# EAGLE library part DM3D_MICRO_SD (library xnemo)
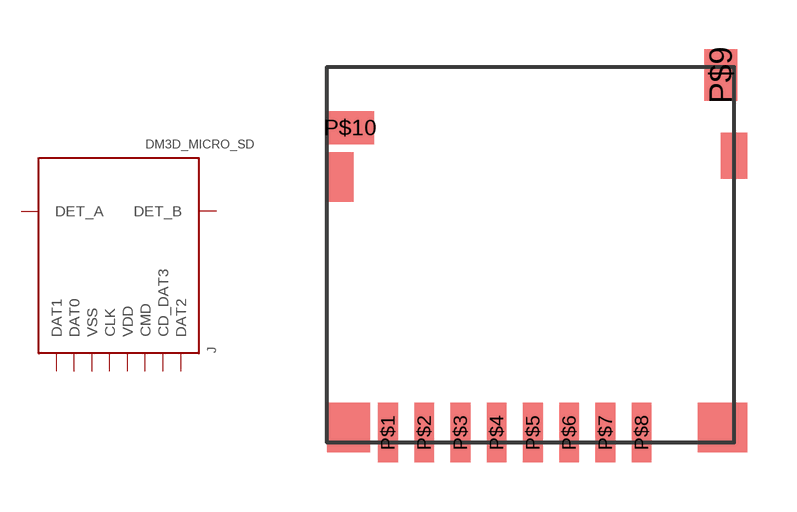
[diagram p7: symbol with the pads of HIROSE_DM3D; footprint HIROSE_DM3D]

Designator prefix J

## DM3D_MICRO_SD  [HIROSE_DM3D]
P$1  DAT1
P$2  DAT0
P$3  VSS
P$4  CLK
P$5  VDD
P$6  CMD
P$7  CD_DAT3
P$8  DAT2
P$9  DET_B
P$10  DET_A

## Footprint HIROSE_DM3D (pad centres in mm)
smd 0.6 x 1.8: P$1 -3.81,-5.98; P$2 -2.71,-5.98; P$3 -1.61,-5.98; P$4 -0.51,-5.98; P$5 0.59,-5.98; P$6 1.69,-5.98; P$7 2.79,-5.98; P$8 3.89,-5.98
smd 1 x 1.55: P$9 6.29,4.87
smd 1.45 x 1: P$10 -4.96,3.27